# Altium footprint library Connector_Phoenix_SPT.PcbLib: 69 footprints (part 3 of 5)
Each footprint in its own frame and in the unit in brackets; x right, y up, seen from the top. Pads: shape width x height; smd on the part's side, far side on the other; paste and mask are expansions set on the pad; w line width, h text height; cw(c..) or ccw(c..) is an arc to the next point about the centre after c.
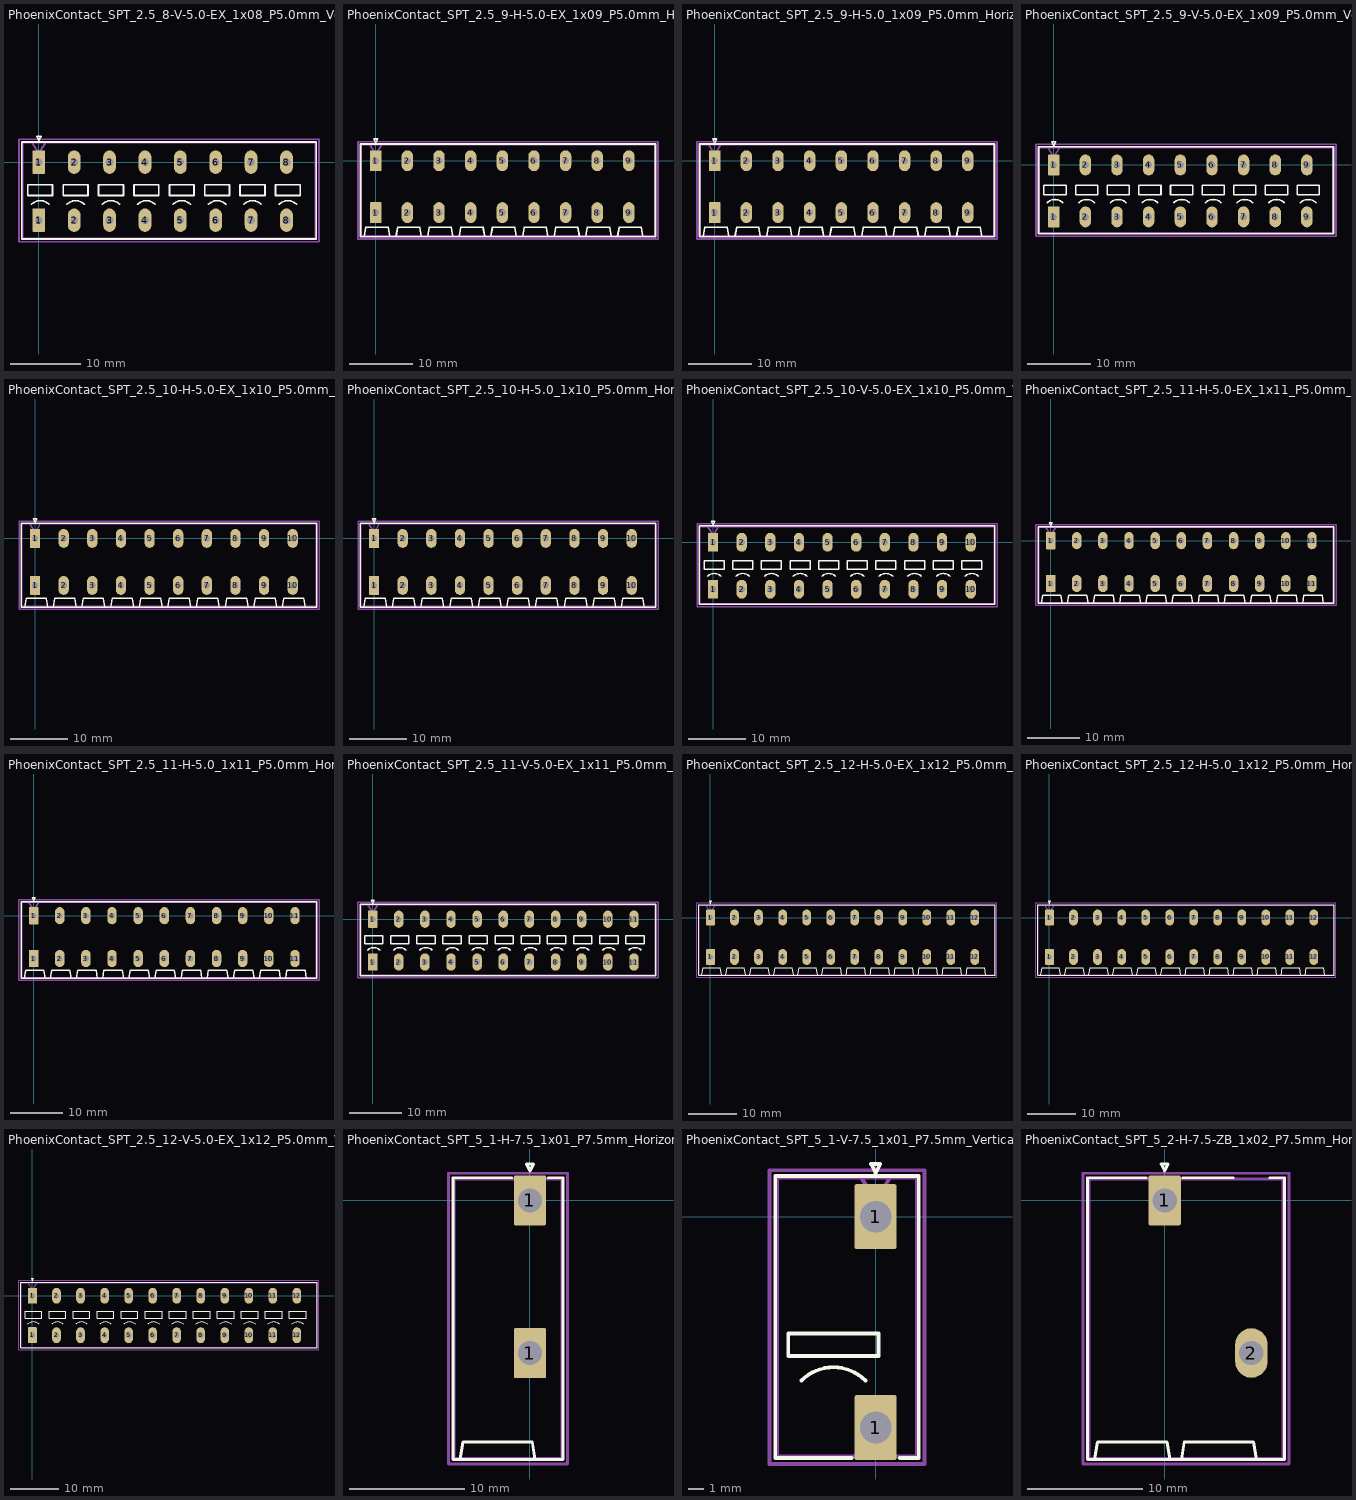
[diagram p2: the footprints below, top view; thin cyan lines are the x and y axes]

## PhoenixContact_SPT_2.5_8-V-5.0-EX_1x08_P5.0mm_Vertical [mm]
pads (16):
  rrect14% 1.8x3.3 hole 1.1: 1(0,-8.2) 1(0,0)
  rrect100% 1.8x3.3 hole 1.1: 2(5,-8.2) 2(5,0) 3(10,-8.2) 3(10,0) 4(15,-8.2) 4(15,0) 5(20,-8.2) 5(20,0) 6(25,-8.2) 6(25,0) 7(30,-8.2) 7(30,0) 8(35,-8.2) 8(35,0)
F.SilkS:
  lines w0.254: -1.037,-5.963 cw(c0.2,-7.2) 1.437,-5.963 ; 3.963,-5.963 cw(c5.2,-7.2) 6.437,-5.963 ; 8.963,-5.963 cw(c10.2,-7.2) 11.437,-5.963 ; 13.963,-5.963 cw(c15.2,-7.2) 16.437,-5.963 ; 18.963,-5.963 cw(c20.2,-7.2) 21.437,-5.963 ; 23.963,-5.963 cw(c25.2,-7.2) 26.437,-5.963 ; 28.963,-5.963 cw(c30.2,-7.2) 31.437,-5.963 ; 33.963,-5.963 cw(c35.2,-7.2) 36.437,-5.963 ; -2.41,-10.86 39.21,-10.86 39.21,2.86 -2.41,2.86 -2.41,-10.86 ; -1.55,-4.7 1.95,-4.7 1.95,-3.2 -1.55,-3.2 -1.55,-4.7 ; -0.3,3.66 0.3,3.66 0,3.06 -0.3,3.66 ; 3.45,-4.7 6.95,-4.7 6.95,-3.2 3.45,-3.2 3.45,-4.7 ; 8.45,-4.7 11.95,-4.7 11.95,-3.2 8.45,-3.2 8.45,-4.7 ; 13.45,-4.7 16.95,-4.7 16.95,-3.2 13.45,-3.2 13.45,-4.7 ; 18.45,-4.7 21.95,-4.7 21.95,-3.2 18.45,-3.2 18.45,-4.7 ; 23.45,-4.7 26.95,-4.7 26.95,-3.2 23.45,-3.2 23.45,-4.7 ; 28.45,-4.7 31.95,-4.7 31.95,-3.2 28.45,-3.2 28.45,-4.7 ; 33.45,-4.7 36.95,-4.7 36.95,-3.2 33.45,-3.2 33.45,-4.7
Top Assembly:
  lines w0.254: -0.95,2.75 0,1.25 0.95,2.75 ; -2.3,-10.75 39.1,-10.75 39.1,2.75 -2.3,2.75 -2.3,-10.75
  text "'.Designator'" at 14.353,1.21 h1
Top Courtyard:
  lines w0.254: -2.8,-11.25 39.6,-11.25 39.6,3.25 -2.8,3.25 -2.8,-11.25
Top Designator:
  text ".Designator" at 10.782,-4.303 h1.52

## PhoenixContact_SPT_2.5_9-H-5.0-EX_1x09_P5.0mm_Horizontal [mm]
pads (18):
  rrect14% 1.8x3.3 hole 1.1: 1(0,-8.2) 1(0,0)
  rrect100% 1.8x3.3 hole 1.1: 2(5,-8.2) 2(5,0) 3(10,-8.2) 3(10,0) 4(15,-8.2) 4(15,0) 5(20,-8.2) 5(20,0) 6(25,-8.2) 6(25,0) 7(30,-8.2) 7(30,0) 8(35,-8.2) 8(35,0) 9(40,-8.2) 9(40,0)
F.SilkS:
  lines w0.254: -1.8,-11.98 -1.55,-10.48 1.95,-10.48 2.2,-11.98 ; 3.2,-11.98 3.45,-10.48 6.95,-10.48 7.2,-11.98 ; 8.2,-11.98 8.45,-10.48 11.95,-10.48 12.2,-11.98 ; 13.2,-11.98 13.45,-10.48 16.95,-10.48 17.2,-11.98 ; 18.2,-11.98 18.45,-10.48 21.95,-10.48 22.2,-11.98 ; 23.2,-11.98 23.45,-10.48 26.95,-10.48 27.2,-11.98 ; 28.2,-11.98 28.45,-10.48 31.95,-10.48 32.2,-11.98 ; 33.2,-11.98 33.45,-10.48 36.95,-10.48 37.2,-11.98 ; 38.2,-11.98 38.45,-10.48 41.95,-10.48 42.2,-11.98 ; -2.41,-11.98 44.21,-11.98 44.21,2.64 -2.41,2.64 -2.41,-11.98 ; -0.3,3.44 0.3,3.44 0,2.84 -0.3,3.44
Top Assembly:
  lines w0.254: -0.95,2.53 0,1.03 0.95,2.53 ; -2.3,-11.87 44.1,-11.87 44.1,2.53 -2.3,2.53 -2.3,-11.87
  text "'.Designator'" at 16.853,0.99 h1
Top Courtyard:
  lines w0.254: -2.8,-12.37 44.6,-12.37 44.6,3.03 -2.8,3.03 -2.8,-12.37
Top Designator:
  text ".Designator" at 13.282,-4.973 h1.52

## PhoenixContact_SPT_2.5_9-H-5.0_1x09_P5.0mm_Horizontal [mm]
pads (18):
  rrect14% 1.8x3.3 hole 1.1: 1(0,-8.2) 1(0,0)
  rrect100% 1.8x3.3 hole 1.1: 2(5,-8.2) 2(5,0) 3(10,-8.2) 3(10,0) 4(15,-8.2) 4(15,0) 5(20,-8.2) 5(20,0) 6(25,-8.2) 6(25,0) 7(30,-8.2) 7(30,0) 8(35,-8.2) 8(35,0) 9(40,-8.2) 9(40,0)
F.SilkS:
  lines w0.254: -1.8,-11.98 -1.55,-10.48 1.95,-10.48 2.2,-11.98 ; 3.2,-11.98 3.45,-10.48 6.95,-10.48 7.2,-11.98 ; 8.2,-11.98 8.45,-10.48 11.95,-10.48 12.2,-11.98 ; 13.2,-11.98 13.45,-10.48 16.95,-10.48 17.2,-11.98 ; 18.2,-11.98 18.45,-10.48 21.95,-10.48 22.2,-11.98 ; 23.2,-11.98 23.45,-10.48 26.95,-10.48 27.2,-11.98 ; 28.2,-11.98 28.45,-10.48 31.95,-10.48 32.2,-11.98 ; 33.2,-11.98 33.45,-10.48 36.95,-10.48 37.2,-11.98 ; 38.2,-11.98 38.45,-10.48 41.95,-10.48 42.2,-11.98 ; -2.41,-11.98 44.21,-11.98 44.21,2.64 -2.41,2.64 -2.41,-11.98 ; -0.3,3.44 0.3,3.44 0,2.84 -0.3,3.44
Top Assembly:
  lines w0.254: -0.95,2.53 0,1.03 0.95,2.53 ; -2.3,-11.87 44.1,-11.87 44.1,2.53 -2.3,2.53 -2.3,-11.87
  text "'.Designator'" at 16.853,0.99 h1
Top Courtyard:
  lines w0.254: -2.8,-12.37 44.6,-12.37 44.6,3.03 -2.8,3.03 -2.8,-12.37
Top Designator:
  text ".Designator" at 13.282,-4.973 h1.52

## PhoenixContact_SPT_2.5_9-V-5.0-EX_1x09_P5.0mm_Vertical [mm]
pads (18):
  rrect14% 1.8x3.3 hole 1.1: 1(0,-8.2) 1(0,0)
  rrect100% 1.8x3.3 hole 1.1: 2(5,-8.2) 2(5,0) 3(10,-8.2) 3(10,0) 4(15,-8.2) 4(15,0) 5(20,-8.2) 5(20,0) 6(25,-8.2) 6(25,0) 7(30,-8.2) 7(30,0) 8(35,-8.2) 8(35,0) 9(40,-8.2) 9(40,0)
F.SilkS:
  lines w0.254: -1.037,-5.963 cw(c0.2,-7.2) 1.437,-5.963 ; 3.963,-5.963 cw(c5.2,-7.2) 6.437,-5.963 ; 8.963,-5.963 cw(c10.2,-7.2) 11.437,-5.963 ; 13.963,-5.963 cw(c15.2,-7.2) 16.437,-5.963 ; 18.963,-5.963 cw(c20.2,-7.2) 21.437,-5.963 ; 23.963,-5.963 cw(c25.2,-7.2) 26.437,-5.963 ; 28.963,-5.963 cw(c30.2,-7.2) 31.437,-5.963 ; 33.963,-5.963 cw(c35.2,-7.2) 36.437,-5.963 ; 38.963,-5.963 cw(c40.2,-7.2) 41.437,-5.963 ; -2.41,-10.86 44.21,-10.86 44.21,2.86 -2.41,2.86 -2.41,-10.86 ; -1.55,-4.7 1.95,-4.7 1.95,-3.2 -1.55,-3.2 -1.55,-4.7 ; -0.3,3.66 0.3,3.66 0,3.06 -0.3,3.66 ; 3.45,-4.7 6.95,-4.7 6.95,-3.2 3.45,-3.2 3.45,-4.7 ; 8.45,-4.7 11.95,-4.7 11.95,-3.2 8.45,-3.2 8.45,-4.7 ; 13.45,-4.7 16.95,-4.7 16.95,-3.2 13.45,-3.2 13.45,-4.7 ; 18.45,-4.7 21.95,-4.7 21.95,-3.2 18.45,-3.2 18.45,-4.7 ; 23.45,-4.7 26.95,-4.7 26.95,-3.2 23.45,-3.2 23.45,-4.7 ; 28.45,-4.7 31.95,-4.7 31.95,-3.2 28.45,-3.2 28.45,-4.7 ; 33.45,-4.7 36.95,-4.7 36.95,-3.2 33.45,-3.2 33.45,-4.7 ; 38.45,-4.7 41.95,-4.7 41.95,-3.2 38.45,-3.2 38.45,-4.7
Top Assembly:
  lines w0.254: -0.95,2.75 0,1.25 0.95,2.75 ; -2.3,-10.75 44.1,-10.75 44.1,2.75 -2.3,2.75 -2.3,-10.75
  text "'.Designator'" at 16.853,1.21 h1
Top Courtyard:
  lines w0.254: -2.8,-11.25 44.6,-11.25 44.6,3.25 -2.8,3.25 -2.8,-11.25
Top Designator:
  text ".Designator" at 13.282,-4.303 h1.52

## PhoenixContact_SPT_2.5_10-H-5.0-EX_1x10_P5.0mm_Horizontal [mm]
pads (20):
  rrect14% 1.8x3.3 hole 1.1: 1(0,-8.2) 1(0,0)
  rrect100% 1.8x3.3 hole 1.1: 2(5,-8.2) 2(5,0) 3(10,-8.2) 3(10,0) 4(15,-8.2) 4(15,0) 5(20,-8.2) 5(20,0) 6(25,-8.2) 6(25,0) 7(30,-8.2) 7(30,0) 8(35,-8.2) 8(35,0) 9(40,-8.2) 9(40,0) 10(45,-8.2) 10(45,0)
F.SilkS:
  lines w0.254: -1.8,-11.98 -1.55,-10.48 1.95,-10.48 2.2,-11.98 ; 3.2,-11.98 3.45,-10.48 6.95,-10.48 7.2,-11.98 ; 8.2,-11.98 8.45,-10.48 11.95,-10.48 12.2,-11.98 ; 13.2,-11.98 13.45,-10.48 16.95,-10.48 17.2,-11.98 ; 18.2,-11.98 18.45,-10.48 21.95,-10.48 22.2,-11.98 ; 23.2,-11.98 23.45,-10.48 26.95,-10.48 27.2,-11.98 ; 28.2,-11.98 28.45,-10.48 31.95,-10.48 32.2,-11.98 ; 33.2,-11.98 33.45,-10.48 36.95,-10.48 37.2,-11.98 ; 38.2,-11.98 38.45,-10.48 41.95,-10.48 42.2,-11.98 ; 43.2,-11.98 43.45,-10.48 46.95,-10.48 47.2,-11.98 ; -2.41,-11.98 49.21,-11.98 49.21,2.64 -2.41,2.64 -2.41,-11.98 ; -0.3,3.44 0.3,3.44 0,2.84 -0.3,3.44
Top Assembly:
  lines w0.254: -0.95,2.53 0,1.03 0.95,2.53 ; -2.3,-11.87 49.1,-11.87 49.1,2.53 -2.3,2.53 -2.3,-11.87
  text "'.Designator'" at 19.353,0.99 h1
Top Courtyard:
  lines w0.254: -2.8,-12.37 49.6,-12.37 49.6,3.03 -2.8,3.03 -2.8,-12.37
Top Designator:
  text ".Designator" at 15.782,-4.973 h1.52

## PhoenixContact_SPT_2.5_10-H-5.0_1x10_P5.0mm_Horizontal [mm]
pads (20):
  rrect14% 1.8x3.3 hole 1.1: 1(0,-8.2) 1(0,0)
  rrect100% 1.8x3.3 hole 1.1: 2(5,-8.2) 2(5,0) 3(10,-8.2) 3(10,0) 4(15,-8.2) 4(15,0) 5(20,-8.2) 5(20,0) 6(25,-8.2) 6(25,0) 7(30,-8.2) 7(30,0) 8(35,-8.2) 8(35,0) 9(40,-8.2) 9(40,0) 10(45,-8.2) 10(45,0)
F.SilkS:
  lines w0.254: -1.8,-11.98 -1.55,-10.48 1.95,-10.48 2.2,-11.98 ; 3.2,-11.98 3.45,-10.48 6.95,-10.48 7.2,-11.98 ; 8.2,-11.98 8.45,-10.48 11.95,-10.48 12.2,-11.98 ; 13.2,-11.98 13.45,-10.48 16.95,-10.48 17.2,-11.98 ; 18.2,-11.98 18.45,-10.48 21.95,-10.48 22.2,-11.98 ; 23.2,-11.98 23.45,-10.48 26.95,-10.48 27.2,-11.98 ; 28.2,-11.98 28.45,-10.48 31.95,-10.48 32.2,-11.98 ; 33.2,-11.98 33.45,-10.48 36.95,-10.48 37.2,-11.98 ; 38.2,-11.98 38.45,-10.48 41.95,-10.48 42.2,-11.98 ; 43.2,-11.98 43.45,-10.48 46.95,-10.48 47.2,-11.98 ; -2.41,-11.98 49.21,-11.98 49.21,2.64 -2.41,2.64 -2.41,-11.98 ; -0.3,3.44 0.3,3.44 0,2.84 -0.3,3.44
Top Assembly:
  lines w0.254: -0.95,2.53 0,1.03 0.95,2.53 ; -2.3,-11.87 49.1,-11.87 49.1,2.53 -2.3,2.53 -2.3,-11.87
  text "'.Designator'" at 19.353,0.99 h1
Top Courtyard:
  lines w0.254: -2.8,-12.37 49.6,-12.37 49.6,3.03 -2.8,3.03 -2.8,-12.37
Top Designator:
  text ".Designator" at 15.782,-4.973 h1.52

## PhoenixContact_SPT_2.5_10-V-5.0-EX_1x10_P5.0mm_Vertical [mm]
pads (20):
  rrect14% 1.8x3.3 hole 1.1: 1(0,-8.2) 1(0,0)
  rrect100% 1.8x3.3 hole 1.1: 2(5,-8.2) 2(5,0) 3(10,-8.2) 3(10,0) 4(15,-8.2) 4(15,0) 5(20,-8.2) 5(20,0) 6(25,-8.2) 6(25,0) 7(30,-8.2) 7(30,0) 8(35,-8.2) 8(35,0) 9(40,-8.2) 9(40,0) 10(45,-8.2) 10(45,0)
F.SilkS:
  lines w0.254: -1.037,-5.963 cw(c0.2,-7.2) 1.437,-5.963 ; 3.963,-5.963 cw(c5.2,-7.2) 6.437,-5.963 ; 8.963,-5.963 cw(c10.2,-7.2) 11.437,-5.963 ; 13.963,-5.963 cw(c15.2,-7.2) 16.437,-5.963 ; 18.963,-5.963 cw(c20.2,-7.2) 21.437,-5.963 ; 23.963,-5.963 cw(c25.2,-7.2) 26.437,-5.963 ; 28.963,-5.963 cw(c30.2,-7.2) 31.437,-5.963 ; 33.963,-5.963 cw(c35.2,-7.2) 36.437,-5.963 ; 38.963,-5.963 cw(c40.2,-7.2) 41.437,-5.963 ; 43.963,-5.963 cw(c45.2,-7.2) 46.437,-5.963 ; -2.41,-10.86 49.21,-10.86 49.21,2.86 -2.41,2.86 -2.41,-10.86 ; -1.55,-4.7 1.95,-4.7 1.95,-3.2 -1.55,-3.2 -1.55,-4.7 ; -0.3,3.66 0.3,3.66 0,3.06 -0.3,3.66 ; 3.45,-4.7 6.95,-4.7 6.95,-3.2 3.45,-3.2 3.45,-4.7 ; 8.45,-4.7 11.95,-4.7 11.95,-3.2 8.45,-3.2 8.45,-4.7 ; 13.45,-4.7 16.95,-4.7 16.95,-3.2 13.45,-3.2 13.45,-4.7 ; 18.45,-4.7 21.95,-4.7 21.95,-3.2 18.45,-3.2 18.45,-4.7 ; 23.45,-4.7 26.95,-4.7 26.95,-3.2 23.45,-3.2 23.45,-4.7 ; 28.45,-4.7 31.95,-4.7 31.95,-3.2 28.45,-3.2 28.45,-4.7 ; 33.45,-4.7 36.95,-4.7 36.95,-3.2 33.45,-3.2 33.45,-4.7 ; 38.45,-4.7 41.95,-4.7 41.95,-3.2 38.45,-3.2 38.45,-4.7 ; 43.45,-4.7 46.95,-4.7 46.95,-3.2 43.45,-3.2 43.45,-4.7
Top Assembly:
  lines w0.254: -0.95,2.75 0,1.25 0.95,2.75 ; -2.3,-10.75 49.1,-10.75 49.1,2.75 -2.3,2.75 -2.3,-10.75
  text "'.Designator'" at 19.353,1.21 h1
Top Courtyard:
  lines w0.254: -2.8,-11.25 49.6,-11.25 49.6,3.25 -2.8,3.25 -2.8,-11.25
Top Designator:
  text ".Designator" at 15.782,-4.303 h1.52

## PhoenixContact_SPT_2.5_11-H-5.0-EX_1x11_P5.0mm_Horizontal [mm]
pads (22):
  rrect14% 1.8x3.3 hole 1.1: 1(0,-8.2) 1(0,0)
  rrect100% 1.8x3.3 hole 1.1: 2(5,-8.2) 2(5,0) 3(10,-8.2) 3(10,0) 4(15,-8.2) 4(15,0) 5(20,-8.2) 5(20,0) 6(25,-8.2) 6(25,0) 7(30,-8.2) 7(30,0) 8(35,-8.2) 8(35,0) 9(40,-8.2) 9(40,0) 10(45,-8.2) 10(45,0) 11(50,-8.2) 11(50,0)
F.SilkS:
  lines w0.254: -1.8,-11.98 -1.55,-10.48 1.95,-10.48 2.2,-11.98 ; 3.2,-11.98 3.45,-10.48 6.95,-10.48 7.2,-11.98 ; 8.2,-11.98 8.45,-10.48 11.95,-10.48 12.2,-11.98 ; 13.2,-11.98 13.45,-10.48 16.95,-10.48 17.2,-11.98 ; 18.2,-11.98 18.45,-10.48 21.95,-10.48 22.2,-11.98 ; 23.2,-11.98 23.45,-10.48 26.95,-10.48 27.2,-11.98 ; 28.2,-11.98 28.45,-10.48 31.95,-10.48 32.2,-11.98 ; 33.2,-11.98 33.45,-10.48 36.95,-10.48 37.2,-11.98 ; 38.2,-11.98 38.45,-10.48 41.95,-10.48 42.2,-11.98 ; 43.2,-11.98 43.45,-10.48 46.95,-10.48 47.2,-11.98 ; 48.2,-11.98 48.45,-10.48 51.95,-10.48 52.2,-11.98 ; -2.41,-11.98 54.21,-11.98 54.21,2.64 -2.41,2.64 -2.41,-11.98 ; -0.3,3.44 0.3,3.44 0,2.84 -0.3,3.44
Top Assembly:
  lines w0.254: -0.95,2.53 0,1.03 0.95,2.53 ; -2.3,-11.87 54.1,-11.87 54.1,2.53 -2.3,2.53 -2.3,-11.87
  text "'.Designator'" at 21.853,0.99 h1
Top Courtyard:
  lines w0.254: -2.8,-12.37 54.6,-12.37 54.6,3.03 -2.8,3.03 -2.8,-12.37
Top Designator:
  text ".Designator" at 18.282,-4.973 h1.52

## PhoenixContact_SPT_2.5_11-H-5.0_1x11_P5.0mm_Horizontal [mm]
pads (22):
  rrect14% 1.8x3.3 hole 1.1: 1(0,-8.2) 1(0,0)
  rrect100% 1.8x3.3 hole 1.1: 2(5,-8.2) 2(5,0) 3(10,-8.2) 3(10,0) 4(15,-8.2) 4(15,0) 5(20,-8.2) 5(20,0) 6(25,-8.2) 6(25,0) 7(30,-8.2) 7(30,0) 8(35,-8.2) 8(35,0) 9(40,-8.2) 9(40,0) 10(45,-8.2) 10(45,0) 11(50,-8.2) 11(50,0)
F.SilkS:
  lines w0.254: -1.8,-11.98 -1.55,-10.48 1.95,-10.48 2.2,-11.98 ; 3.2,-11.98 3.45,-10.48 6.95,-10.48 7.2,-11.98 ; 8.2,-11.98 8.45,-10.48 11.95,-10.48 12.2,-11.98 ; 13.2,-11.98 13.45,-10.48 16.95,-10.48 17.2,-11.98 ; 18.2,-11.98 18.45,-10.48 21.95,-10.48 22.2,-11.98 ; 23.2,-11.98 23.45,-10.48 26.95,-10.48 27.2,-11.98 ; 28.2,-11.98 28.45,-10.48 31.95,-10.48 32.2,-11.98 ; 33.2,-11.98 33.45,-10.48 36.95,-10.48 37.2,-11.98 ; 38.2,-11.98 38.45,-10.48 41.95,-10.48 42.2,-11.98 ; 43.2,-11.98 43.45,-10.48 46.95,-10.48 47.2,-11.98 ; 48.2,-11.98 48.45,-10.48 51.95,-10.48 52.2,-11.98 ; -2.41,-11.98 54.21,-11.98 54.21,2.64 -2.41,2.64 -2.41,-11.98 ; -0.3,3.44 0.3,3.44 0,2.84 -0.3,3.44
Top Assembly:
  lines w0.254: -0.95,2.53 0,1.03 0.95,2.53 ; -2.3,-11.87 54.1,-11.87 54.1,2.53 -2.3,2.53 -2.3,-11.87
  text "'.Designator'" at 21.853,0.99 h1
Top Courtyard:
  lines w0.254: -2.8,-12.37 54.6,-12.37 54.6,3.03 -2.8,3.03 -2.8,-12.37
Top Designator:
  text ".Designator" at 18.282,-4.973 h1.52

## PhoenixContact_SPT_2.5_11-V-5.0-EX_1x11_P5.0mm_Vertical [mm]
pads (22):
  rrect14% 1.8x3.3 hole 1.1: 1(0,-8.2) 1(0,0)
  rrect100% 1.8x3.3 hole 1.1: 2(5,-8.2) 2(5,0) 3(10,-8.2) 3(10,0) 4(15,-8.2) 4(15,0) 5(20,-8.2) 5(20,0) 6(25,-8.2) 6(25,0) 7(30,-8.2) 7(30,0) 8(35,-8.2) 8(35,0) 9(40,-8.2) 9(40,0) 10(45,-8.2) 10(45,0) 11(50,-8.2) 11(50,0)
F.SilkS:
  lines w0.254: -1.037,-5.963 cw(c0.2,-7.2) 1.437,-5.963 ; 3.963,-5.963 cw(c5.2,-7.2) 6.437,-5.963 ; 8.963,-5.963 cw(c10.2,-7.2) 11.437,-5.963 ; 13.963,-5.963 cw(c15.2,-7.2) 16.437,-5.963 ; 18.963,-5.963 cw(c20.2,-7.2) 21.437,-5.963 ; 23.963,-5.963 cw(c25.2,-7.2) 26.437,-5.963 ; 28.963,-5.963 cw(c30.2,-7.2) 31.437,-5.963 ; 33.963,-5.963 cw(c35.2,-7.2) 36.437,-5.963 ; 38.963,-5.963 cw(c40.2,-7.2) 41.437,-5.963 ; 43.963,-5.963 cw(c45.2,-7.2) 46.437,-5.963 ; 48.963,-5.963 cw(c50.2,-7.2) 51.437,-5.963 ; -2.41,-10.86 54.21,-10.86 54.21,2.86 -2.41,2.86 -2.41,-10.86 ; -1.55,-4.7 1.95,-4.7 1.95,-3.2 -1.55,-3.2 -1.55,-4.7 ; -0.3,3.66 0.3,3.66 0,3.06 -0.3,3.66 ; 3.45,-4.7 6.95,-4.7 6.95,-3.2 3.45,-3.2 3.45,-4.7 ; 8.45,-4.7 11.95,-4.7 11.95,-3.2 8.45,-3.2 8.45,-4.7 ; 13.45,-4.7 16.95,-4.7 16.95,-3.2 13.45,-3.2 13.45,-4.7 ; 18.45,-4.7 21.95,-4.7 21.95,-3.2 18.45,-3.2 18.45,-4.7 ; 23.45,-4.7 26.95,-4.7 26.95,-3.2 23.45,-3.2 23.45,-4.7 ; 28.45,-4.7 31.95,-4.7 31.95,-3.2 28.45,-3.2 28.45,-4.7 ; 33.45,-4.7 36.95,-4.7 36.95,-3.2 33.45,-3.2 33.45,-4.7 ; 38.45,-4.7 41.95,-4.7 41.95,-3.2 38.45,-3.2 38.45,-4.7 ; 43.45,-4.7 46.95,-4.7 46.95,-3.2 43.45,-3.2 43.45,-4.7 ; 48.45,-4.7 51.95,-4.7 51.95,-3.2 48.45,-3.2 48.45,-4.7
Top Assembly:
  lines w0.254: -0.95,2.75 0,1.25 0.95,2.75 ; -2.3,-10.75 54.1,-10.75 54.1,2.75 -2.3,2.75 -2.3,-10.75
  text "'.Designator'" at 21.853,1.21 h1
Top Courtyard:
  lines w0.254: -2.8,-11.25 54.6,-11.25 54.6,3.25 -2.8,3.25 -2.8,-11.25
Top Designator:
  text ".Designator" at 18.282,-4.303 h1.52

## PhoenixContact_SPT_2.5_12-H-5.0-EX_1x12_P5.0mm_Horizontal [mm]
pads (24):
  rrect14% 1.8x3.3 hole 1.1: 1(0,-8.2) 1(0,0)
  rrect100% 1.8x3.3 hole 1.1: 2(5,-8.2) 2(5,0) 3(10,-8.2) 3(10,0) 4(15,-8.2) 4(15,0) 5(20,-8.2) 5(20,0) 6(25,-8.2) 6(25,0) 7(30,-8.2) 7(30,0) 8(35,-8.2) 8(35,0) 9(40,-8.2) 9(40,0) 10(45,-8.2) 10(45,0) 11(50,-8.2) 11(50,0) 12(55,-8.2) 12(55,0)
F.SilkS:
  lines w0.254: -1.8,-11.98 -1.55,-10.48 1.95,-10.48 2.2,-11.98 ; 3.2,-11.98 3.45,-10.48 6.95,-10.48 7.2,-11.98 ; 8.2,-11.98 8.45,-10.48 11.95,-10.48 12.2,-11.98 ; 13.2,-11.98 13.45,-10.48 16.95,-10.48 17.2,-11.98 ; 18.2,-11.98 18.45,-10.48 21.95,-10.48 22.2,-11.98 ; 23.2,-11.98 23.45,-10.48 26.95,-10.48 27.2,-11.98 ; 28.2,-11.98 28.45,-10.48 31.95,-10.48 32.2,-11.98 ; 33.2,-11.98 33.45,-10.48 36.95,-10.48 37.2,-11.98 ; 38.2,-11.98 38.45,-10.48 41.95,-10.48 42.2,-11.98 ; 43.2,-11.98 43.45,-10.48 46.95,-10.48 47.2,-11.98 ; 48.2,-11.98 48.45,-10.48 51.95,-10.48 52.2,-11.98 ; 53.2,-11.98 53.45,-10.48 56.95,-10.48 57.2,-11.98 ; -2.41,-11.98 59.21,-11.98 59.21,2.64 -2.41,2.64 -2.41,-11.98 ; -0.3,3.44 0.3,3.44 0,2.84 -0.3,3.44
Top Assembly:
  lines w0.254: -0.95,2.53 0,1.03 0.95,2.53 ; -2.3,-11.87 59.1,-11.87 59.1,2.53 -2.3,2.53 -2.3,-11.87
  text "'.Designator'" at 24.353,0.99 h1
Top Courtyard:
  lines w0.254: -2.8,-12.37 59.6,-12.37 59.6,3.03 -2.8,3.03 -2.8,-12.37
Top Designator:
  text ".Designator" at 20.782,-4.973 h1.52

## PhoenixContact_SPT_2.5_12-H-5.0_1x12_P5.0mm_Horizontal [mm]
pads (24):
  rrect14% 1.8x3.3 hole 1.1: 1(0,-8.2) 1(0,0)
  rrect100% 1.8x3.3 hole 1.1: 2(5,-8.2) 2(5,0) 3(10,-8.2) 3(10,0) 4(15,-8.2) 4(15,0) 5(20,-8.2) 5(20,0) 6(25,-8.2) 6(25,0) 7(30,-8.2) 7(30,0) 8(35,-8.2) 8(35,0) 9(40,-8.2) 9(40,0) 10(45,-8.2) 10(45,0) 11(50,-8.2) 11(50,0) 12(55,-8.2) 12(55,0)
F.SilkS:
  lines w0.254: -1.8,-11.98 -1.55,-10.48 1.95,-10.48 2.2,-11.98 ; 3.2,-11.98 3.45,-10.48 6.95,-10.48 7.2,-11.98 ; 8.2,-11.98 8.45,-10.48 11.95,-10.48 12.2,-11.98 ; 13.2,-11.98 13.45,-10.48 16.95,-10.48 17.2,-11.98 ; 18.2,-11.98 18.45,-10.48 21.95,-10.48 22.2,-11.98 ; 23.2,-11.98 23.45,-10.48 26.95,-10.48 27.2,-11.98 ; 28.2,-11.98 28.45,-10.48 31.95,-10.48 32.2,-11.98 ; 33.2,-11.98 33.45,-10.48 36.95,-10.48 37.2,-11.98 ; 38.2,-11.98 38.45,-10.48 41.95,-10.48 42.2,-11.98 ; 43.2,-11.98 43.45,-10.48 46.95,-10.48 47.2,-11.98 ; 48.2,-11.98 48.45,-10.48 51.95,-10.48 52.2,-11.98 ; 53.2,-11.98 53.45,-10.48 56.95,-10.48 57.2,-11.98 ; -2.41,-11.98 59.21,-11.98 59.21,2.64 -2.41,2.64 -2.41,-11.98 ; -0.3,3.44 0.3,3.44 0,2.84 -0.3,3.44
Top Assembly:
  lines w0.254: -0.95,2.53 0,1.03 0.95,2.53 ; -2.3,-11.87 59.1,-11.87 59.1,2.53 -2.3,2.53 -2.3,-11.87
  text "'.Designator'" at 24.353,0.99 h1
Top Courtyard:
  lines w0.254: -2.8,-12.37 59.6,-12.37 59.6,3.03 -2.8,3.03 -2.8,-12.37
Top Designator:
  text ".Designator" at 20.782,-4.973 h1.52

## PhoenixContact_SPT_2.5_12-V-5.0-EX_1x12_P5.0mm_Vertical [mm]
pads (24):
  rrect14% 1.8x3.3 hole 1.1: 1(0,-8.2) 1(0,0)
  rrect100% 1.8x3.3 hole 1.1: 2(5,-8.2) 2(5,0) 3(10,-8.2) 3(10,0) 4(15,-8.2) 4(15,0) 5(20,-8.2) 5(20,0) 6(25,-8.2) 6(25,0) 7(30,-8.2) 7(30,0) 8(35,-8.2) 8(35,0) 9(40,-8.2) 9(40,0) 10(45,-8.2) 10(45,0) 11(50,-8.2) 11(50,0) 12(55,-8.2) 12(55,0)
F.SilkS:
  lines w0.254: -1.037,-5.963 cw(c0.2,-7.2) 1.437,-5.963 ; 3.963,-5.963 cw(c5.2,-7.2) 6.437,-5.963 ; 8.963,-5.963 cw(c10.2,-7.2) 11.437,-5.963 ; 13.963,-5.963 cw(c15.2,-7.2) 16.437,-5.963 ; 18.963,-5.963 cw(c20.2,-7.2) 21.437,-5.963 ; 23.963,-5.963 cw(c25.2,-7.2) 26.437,-5.963 ; 28.963,-5.963 cw(c30.2,-7.2) 31.437,-5.963 ; 33.963,-5.963 cw(c35.2,-7.2) 36.437,-5.963 ; 38.963,-5.963 cw(c40.2,-7.2) 41.437,-5.963 ; 43.963,-5.963 cw(c45.2,-7.2) 46.437,-5.963 ; 48.963,-5.963 cw(c50.2,-7.2) 51.437,-5.963 ; 53.963,-5.963 cw(c55.2,-7.2) 56.437,-5.963 ; -2.41,-10.86 59.21,-10.86 59.21,2.86 -2.41,2.86 -2.41,-10.86 ; -1.55,-4.7 1.95,-4.7 1.95,-3.2 -1.55,-3.2 -1.55,-4.7 ; -0.3,3.66 0.3,3.66 0,3.06 -0.3,3.66 ; 3.45,-4.7 6.95,-4.7 6.95,-3.2 3.45,-3.2 3.45,-4.7 ; 8.45,-4.7 11.95,-4.7 11.95,-3.2 8.45,-3.2 8.45,-4.7 ; 13.45,-4.7 16.95,-4.7 16.95,-3.2 13.45,-3.2 13.45,-4.7 ; 18.45,-4.7 21.95,-4.7 21.95,-3.2 18.45,-3.2 18.45,-4.7 ; 23.45,-4.7 26.95,-4.7 26.95,-3.2 23.45,-3.2 23.45,-4.7 ; 28.45,-4.7 31.95,-4.7 31.95,-3.2 28.45,-3.2 28.45,-4.7 ; 33.45,-4.7 36.95,-4.7 36.95,-3.2 33.45,-3.2 33.45,-4.7 ; 38.45,-4.7 41.95,-4.7 41.95,-3.2 38.45,-3.2 38.45,-4.7 ; 43.45,-4.7 46.95,-4.7 46.95,-3.2 43.45,-3.2 43.45,-4.7 ; 48.45,-4.7 51.95,-4.7 51.95,-3.2 48.45,-3.2 48.45,-4.7 ; 53.45,-4.7 56.95,-4.7 56.95,-3.2 53.45,-3.2 53.45,-4.7
Top Assembly:
  lines w0.254: -0.95,2.75 0,1.25 0.95,2.75 ; -2.3,-10.75 59.1,-10.75 59.1,2.75 -2.3,2.75 -2.3,-10.75
  text "'.Designator'" at 24.353,1.21 h1
Top Courtyard:
  lines w0.254: -2.8,-11.25 59.6,-11.25 59.6,3.25 -2.8,3.25 -2.8,-11.25
Top Designator:
  text ".Designator" at 20.782,-4.303 h1.52

## PhoenixContact_SPT_5_1-H-7.5_1x01_P7.5mm_Horizontal [mm]
pads (2):
  rrect9% 2.8x4.3 hole 2.1: 1(0,-13.2) 1(0,0)
F.SilkS:
  lines w0.254: -6.05,-22.41 -5.8,-20.91 0.2,-20.91 0.45,-22.41 ; -1.6,1.96 -6.66,1.96 -6.66,-22.41 2.86,-22.41 2.86,1.96 1.6,1.96 ; -0.3,3.15 0.3,3.15 0,2.55 -0.3,3.15
Top Assembly:
  lines w0.254: -0.95,1.85 0,0.35 0.95,1.85 ; -6.55,-22.3 2.75,-22.3 2.75,1.85 -6.55,1.85 -6.55,-22.3
  text "'.Designator'" at -5.947,0.31 h1
Top Courtyard:
  lines w0.254: -7.05,-22.8 3.25,-22.8 3.25,2.35 -7.05,2.35 -7.05,-22.8
Top Designator:
  text ".Designator" at -9.518,-10.333 h1.52

## PhoenixContact_SPT_5_1-V-7.5_1x01_P7.5mm_Vertical [mm]
pads (2):
  rrect9% 2.8x4.3 hole 2.1: 1(0,-14) 1(0,0)
F.SilkS:
  lines w0.254: -4.921,-10.879 cw(c-2.8,-13) -0.679,-10.879 ; -1.6,-16.03 -6.66,-16.03 -6.66,2.69 2.86,2.69 2.86,-16.03 1.6,-16.03 ; -5.8,-9.25 0.2,-9.25 0.2,-7.75 -5.8,-7.75 -5.8,-9.25 ; -0.3,3.49 0.3,3.49 0,2.89 -0.3,3.49
Top Assembly:
  lines w0.254: -0.95,2.58 0,1.08 0.95,2.58 ; -6.55,-15.92 2.75,-15.92 2.75,2.58 -6.55,2.58 -6.55,-15.92
  text "'.Designator'" at -5.947,1.04 h1
Top Courtyard:
  lines w0.254: -7.05,-16.42 3.25,-16.42 3.25,3.08 -7.05,3.08 -7.05,-16.42
Top Designator:
  text ".Designator" at -9.518,-6.973 h1.52

## PhoenixContact_SPT_5_2-H-7.5-ZB_1x02_P7.5mm_Horizontal [mm]
pads (2):
  rrect9% 2.8x4.3 hole 2.1: 1(0,0)
  rrect100% 2.8x4.3 hole 2.1: 2(7.5,-13.2)
F.SilkS:
  lines w0.254: -6.05,-22.41 -5.8,-20.91 0.2,-20.91 0.45,-22.41 ; -1.6,1.96 -6.66,1.96 -6.66,-22.41 10.36,-22.41 10.36,1.96 9.1,1.96 ; 1.45,-22.41 1.7,-20.91 7.7,-20.91 7.95,-22.41 ; 1.6,1.96 5.9,1.96 ; -0.3,3.15 0.3,3.15 0,2.55 -0.3,3.15
Top Assembly:
  lines w0.254: -0.95,1.85 0,0.35 0.95,1.85 ; -6.55,-22.3 10.25,-22.3 10.25,1.85 -6.55,1.85 -6.55,-22.3
  text "'.Designator'" at -2.197,0.31 h1
Top Courtyard:
  lines w0.254: -7.05,-22.8 10.75,-22.8 10.75,2.35 -7.05,2.35 -7.05,-22.8
Top Designator:
  text ".Designator" at -5.768,-10.333 h1.52